# Altium integrated library FSC Logic Translator.IntLib: 55 symbols (part 2 of 2)
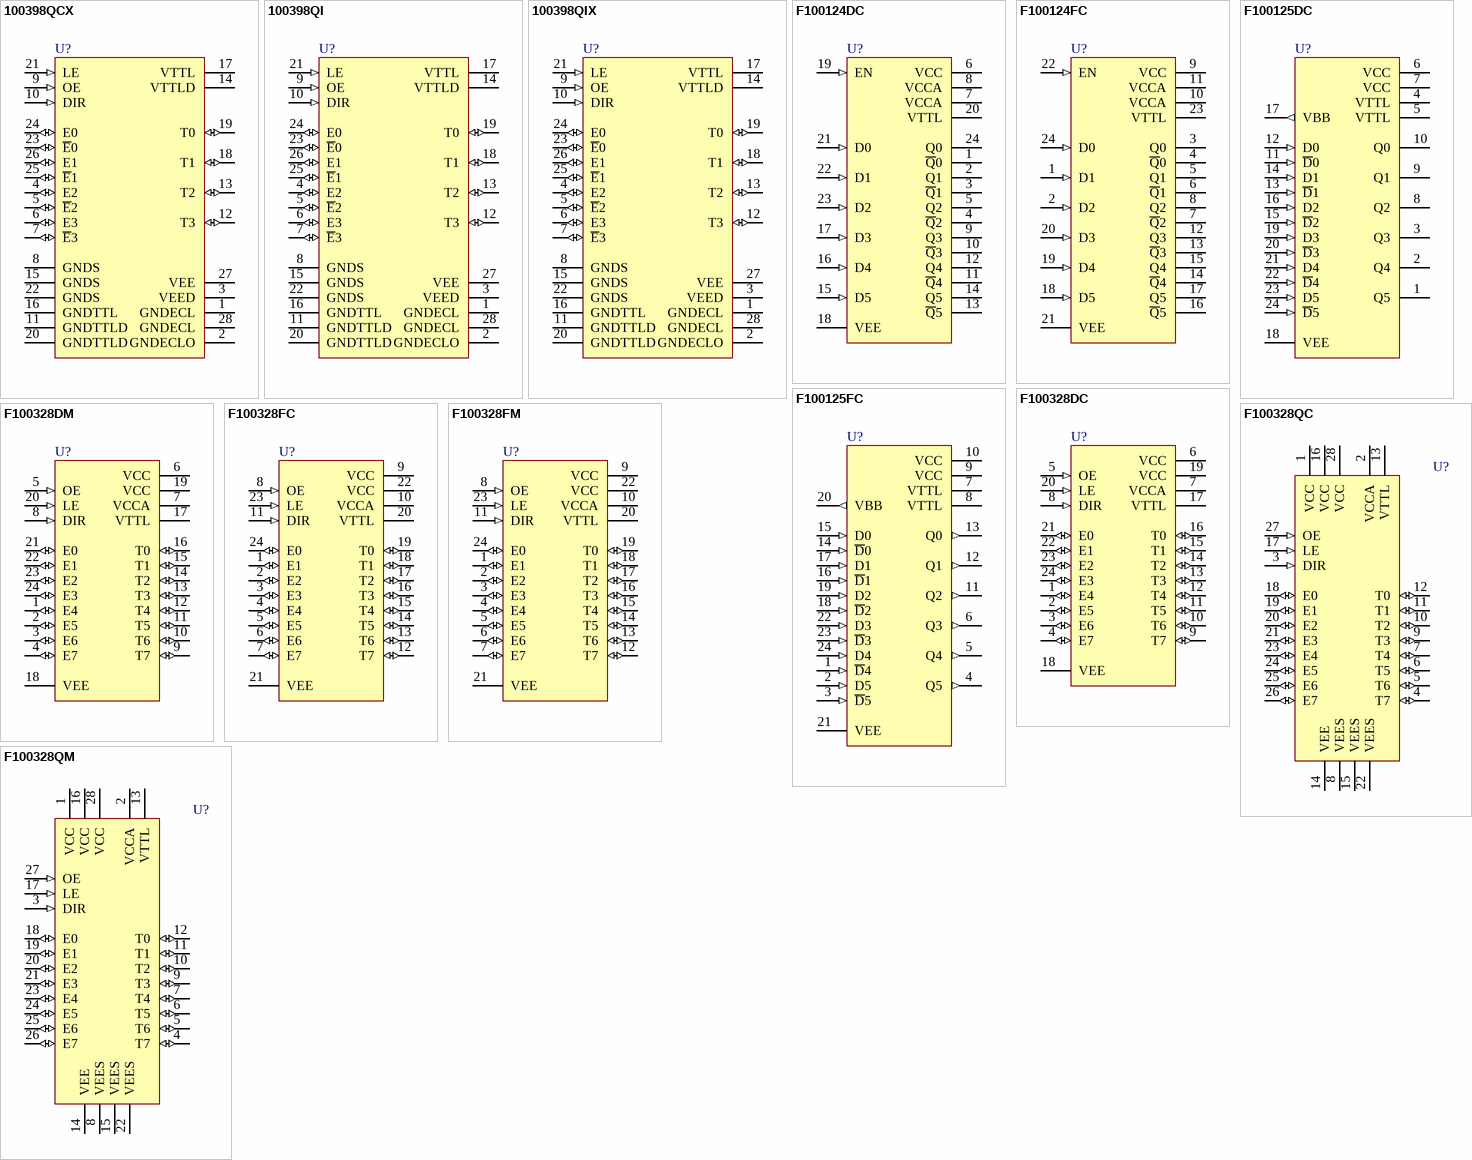
[diagram p3: symbols 100398QCX to F100328QM]

## 100398QCX
designator U?
Quad Differential ECL/TTL Translating Transceiver with Latch; Published: 17-Jul-2002; LatestRevisionDate: 13-Apr-2006; LatestRevisionNote: IPC-7351 Footprint Added.; DatasheetVersion: Nov-1999; PackageVersion: 2000; PackageReference: V28A; Publisher: Altium Limited; PackageDescription: 28-Pin Leaded Chip Carrier 1.27 mm Pitch; Code_IPC: PLCC-28; ComponentLink1Description: Manufacturer Link; ComponentLink1URL: http://www.fairchildsemi.com/
footprint V28A_N (Leaded Chip Carrier, 28-Leads, Body 11.5x11.5mm, Pitch 1.27mm, IPC Medium Density)
footprint V28A_L (Leaded Chip Carrier, 28-Leads, Body 11.5x11.5mm, Pitch 1.27mm, IPC High Density)
footprint V28A_M (Leaded Chip Carrier, 28-Leads, Body 11.5x11.5mm, Pitch 1.27mm, IPC Low Density)
3D model 100398-V28A (28-Pin Leaded Chip Carrier 1.27 mm Pitch)
pins: 1 GNDECL (power), 2 GNDECLO (power), 3 VEED (power), 4 E2 (io), 5 ~{E}2 (io), 6 E3 (io), 7 ~{E}3 (io), 8 GNDS (power), 9 OE (in), 10 DIR (in), 11 GNDTTLD (power), 12 T3 (io), 13 T2 (io), 14 VTTLD (power), 15 GNDS (power), 16 GNDTTL (power), 17 VTTL (power), 18 T1 (io), 19 T0 (io), 20 GNDTTLD (power), 21 LE (in), 22 GNDS (power), 23 ~{E}0 (io), 24 E0 (io), 25 ~{E}1 (io), 26 E1 (io), 27 VEE (power), 28 GNDECL (power)

## 100398QI
designator U?
Quad Differential ECL/TTL Translating Transceiver with Latch; Published: 17-Jul-2002; LatestRevisionDate: 13-Apr-2006; LatestRevisionNote: IPC-7351 Footprint Added.; DatasheetVersion: Nov-1999; PackageVersion: 2000; PackageReference: V28A; Publisher: Altium Limited; PackageDescription: 28-Pin Leaded Chip Carrier 1.27 mm Pitch; Code_IPC: PLCC-28; ComponentLink1Description: Manufacturer Link; ComponentLink1URL: http://www.fairchildsemi.com/
footprint V28A_N (Leaded Chip Carrier, 28-Leads, Body 11.5x11.5mm, Pitch 1.27mm, IPC Medium Density)
footprint V28A_L (Leaded Chip Carrier, 28-Leads, Body 11.5x11.5mm, Pitch 1.27mm, IPC High Density)
footprint V28A_M (Leaded Chip Carrier, 28-Leads, Body 11.5x11.5mm, Pitch 1.27mm, IPC Low Density)
3D model 100398-V28A (28-Pin Leaded Chip Carrier 1.27 mm Pitch)
pins: 1 GNDECL (power), 2 GNDECLO (power), 3 VEED (power), 4 E2 (io), 5 ~{E}2 (io), 6 E3 (io), 7 ~{E}3 (io), 8 GNDS (power), 9 OE (in), 10 DIR (in), 11 GNDTTLD (power), 12 T3 (io), 13 T2 (io), 14 VTTLD (power), 15 GNDS (power), 16 GNDTTL (power), 17 VTTL (power), 18 T1 (io), 19 T0 (io), 20 GNDTTLD (power), 21 LE (in), 22 GNDS (power), 23 ~{E}0 (io), 24 E0 (io), 25 ~{E}1 (io), 26 E1 (io), 27 VEE (power), 28 GNDECL (power)

## 100398QIX
designator U?
Quad Differential ECL/TTL Translating Transceiver with Latch; Published: 17-Jul-2002; LatestRevisionDate: 13-Apr-2006; LatestRevisionNote: IPC-7351 Footprint Added.; DatasheetVersion: Nov-1999; PackageVersion: 2000; PackageReference: V28A; Publisher: Altium Limited; PackageDescription: 28-Pin Leaded Chip Carrier 1.27 mm Pitch; Code_IPC: PLCC-28; ComponentLink1Description: Manufacturer Link; ComponentLink1URL: http://www.fairchildsemi.com/
footprint V28A_N (Leaded Chip Carrier, 28-Leads, Body 11.5x11.5mm, Pitch 1.27mm, IPC Medium Density)
footprint V28A_L (Leaded Chip Carrier, 28-Leads, Body 11.5x11.5mm, Pitch 1.27mm, IPC High Density)
footprint V28A_M (Leaded Chip Carrier, 28-Leads, Body 11.5x11.5mm, Pitch 1.27mm, IPC Low Density)
3D model 100398-V28A (28-Pin Leaded Chip Carrier 1.27 mm Pitch)
pins: 1 GNDECL (power), 2 GNDECLO (power), 3 VEED (power), 4 E2 (io), 5 ~{E}2 (io), 6 E3 (io), 7 ~{E}3 (io), 8 GNDS (power), 9 OE (in), 10 DIR (in), 11 GNDTTLD (power), 12 T3 (io), 13 T2 (io), 14 VTTLD (power), 15 GNDS (power), 16 GNDTTL (power), 17 VTTL (power), 18 T1 (io), 19 T0 (io), 20 GNDTTLD (power), 21 LE (in), 22 GNDS (power), 23 ~{E}0 (io), 24 E0 (io), 25 ~{E}1 (io), 26 E1 (io), 27 VEE (power), 28 GNDECL (power)

## F100124DC
designator U?
Hex TTL-to-ECL Translator; Note: All inputs have 50K Ohm pull-down resistors.; Published: 17-Jul-2002; LatestRevisionDate: 29-May-2009; LatestRevisionNote: Component Body Added.; DatasheetVersion: 1986; PackageVersion: 1986; PackageReference: 6Y; Publisher: Altium Limited; PackageDescription: DIP, 24-Pin, Row Spacing 10.16 mm, Pitch 2.54 mm; ComponentLink1Description: Manufacturer Link; ComponentLink1URL: http://www.fairchildsemi.com/
footprint 6Y (DIP, 24-Leads, Row Spacing 10.16mm, Pitch 2.54mm, Body 30.57x9.89mm)
3D model N24E (DIP, 24-Pin, Row Spacing 10.16 mm, Pitch 2.54 mm)
pins: 1 ~{Q}0 (oe), 2 Q1 (oe), 3 ~{Q}1 (oe), 4 ~{Q}2 (oe), 5 Q2 (oe), 6 VCC (power), 7 VCCA (power), 8 VCCA (power), 9 Q3 (oe), 10 ~{Q}3 (oe), 11 ~{Q}4 (oe), 12 Q4 (oe), 13 ~{Q}5 (oe), 14 Q5 (oe), 15 D5 (in), 16 D4 (in), 17 D3 (in), 18 VEE (power), 19 EN (in), 20 VTTL (power), 21 D0 (in), 22 D1 (in), 23 D2 (in), 24 Q0 (oe)

## F100124FC
designator U?
Hex TTL-to-ECL Translator; Note: All inputs have 50K Ohm pull-down resistors.; Published: 17-Jul-2002; LatestRevisionDate: 13-Apr-2006; LatestRevisionNote: IPC-7351 Footprint Added.; DatasheetVersion: 1986; PackageVersion: 1986; PackageReference: 4V; Publisher: Altium Limited; PackageDescription: 100-Pin Quad Cerpak 1.27 mm Pitch; ComponentLink1Description: Manufacturer Link; ComponentLink1URL: http://www.fairchildsemi.com/
footprint 4V_N (CQFP, 24-Leads, Body 10x10mm; Pitch 1.27mm, Gullwing Leadform, IPC Medium Density)
footprint 4V_L (CQFP, 24-Leads, Body 10x10mm; Pitch 1.27mm, Gullwing Leadform, IPC High Density)
footprint 4V_M (CQFP, 24-Leads, Body 10x10mm; Pitch 1.27mm, Gullwing Leadform, IPC Low Density)
3D model F100124-4V (100-Pin Quad Cerpak 1.27 mm Pitch)
pins: 1 D1 (in), 2 D2 (in), 3 Q0 (oe), 4 ~{Q}0 (oe), 5 Q1 (oe), 6 ~{Q}1 (oe), 7 ~{Q}2 (oe), 8 Q2 (oe), 9 VCC (power), 10 VCCA (power), 11 VCCA (power), 12 Q3 (oe), 13 ~{Q}3 (oe), 14 ~{Q}4 (oe), 15 Q4 (oe), 16 ~{Q}5 (oe), 17 Q5 (oe), 18 D5 (in), 19 D4 (in), 20 D3 (in), 21 VEE (power), 22 EN (in), 23 VTTL (power), 24 D0 (in)

## F100125DC
designator U?
Hex ECL-to-TTL Translator; Note: All inputs have 50K Ohm pull-down resistors.; Published: 17-Jul-2002; LatestRevisionDate: 29-May-2009; LatestRevisionNote: Component Body Added.; DatasheetVersion: 1986; PackageVersion: 1986; PackageReference: 6Y; Publisher: Altium Limited; PackageDescription: DIP, 24-Pin, Row Spacing 10.16 mm, Pitch 2.54 mm; ComponentLink1Description: Manufacturer Link; ComponentLink1URL: http://www.fairchildsemi.com/
footprint 6Y (DIP, 24-Leads, Row Spacing 10.16mm, Pitch 2.54mm, Body 30.57x9.89mm)
3D model N24E (DIP, 24-Pin, Row Spacing 10.16 mm, Pitch 2.54 mm)
pins: 1 Q5 (oe), 2 Q4 (oe), 3 Q3 (oe), 4 VTTL (power), 5 VTTL (power), 6 VCC (power), 7 VCC (power), 8 Q2 (oe), 9 Q1 (oe), 10 Q0 (oe), 11 ~{D}0 (in), 12 D0 (in), 13 ~{D}1 (in), 14 D1 (in), 15 ~{D}2 (in), 16 D2 (in), 17 VBB (out), 18 VEE (power), 19 D3 (in), 20 ~{D}3 (in), 21 D4 (in), 22 ~{D}4 (in), 23 D5 (in), 24 ~{D}5 (in)

## F100125FC
designator U?
Hex ECL-to-TTL Translator; Note: All inputs have 50K Ohm pull-down resistors.; Published: 17-Jul-2002; LatestRevisionDate: 13-Apr-2006; LatestRevisionNote: IPC-7351 Footprint Added.; DatasheetVersion: 1986; PackageVersion: 1986; PackageReference: 4V; Publisher: Altium Limited; PackageDescription: 100-Pin Quad Cerpak 1.27 mm Pitch; ComponentLink1Description: Manufacturer Link; ComponentLink1URL: http://www.fairchildsemi.com/
footprint 4V_N (CQFP, 24-Leads, Body 10x10mm; Pitch 1.27mm, Gullwing Leadform, IPC Medium Density)
footprint 4V_L (CQFP, 24-Leads, Body 10x10mm; Pitch 1.27mm, Gullwing Leadform, IPC High Density)
footprint 4V_M (CQFP, 24-Leads, Body 10x10mm; Pitch 1.27mm, Gullwing Leadform, IPC Low Density)
3D model F100125-4V (100-Pin Quad Cerpak 1.27 mm Pitch)
pins: 1 ~{D}4 (in), 2 D5 (in), 3 ~{D}5 (in), 4 Q5 (out), 5 Q4 (out), 6 Q3 (out), 7 VTTL (power), 8 VTTL (power), 9 VCC (power), 10 VCC (power), 11 Q2 (out), 12 Q1 (out), 13 Q0 (out), 14 ~{D}0 (in), 15 D0 (in), 16 ~{D}1 (in), 17 D1 (in), 18 ~{D}2 (in), 19 D2 (in), 20 VBB (out), 21 VEE (power), 22 D3 (in), 23 ~{D}3 (in), 24 D4 (in)

## F100328DC
designator U?
Low Power Octal ECL/TTL Bi-Directional Translator with Latch; Note: VCC = VCCA = GND.; Published: 17-Jul-2002; LatestRevisionDate: 29-May-2009; LatestRevisionNote: Component Body Added.; DatasheetVersion: Aug-1990; PackageVersion: Mar-1998; PackageReference: J24E; Publisher: Altium Limited; PackageDescription: DIP, 24-Pin, Row Spacing 10.16 mm, Pitch 2.54 mm; ComponentLink1Description: Manufacturer Link; ComponentLink1URL: http://www.fairchildsemi.com/
footprint J24E (DIP, 24-Leads, Row Spacing 10.16mm, Pitch 2.54mm, Body 30.48x9.14mm)
3D model N24E (DIP, 24-Pin, Row Spacing 10.16 mm, Pitch 2.54 mm)
pins: 1 E4 (io), 2 E5 (io), 3 E6 (io), 4 E7 (io), 5 OE (in), 6 VCC (power), 7 VCCA (power), 8 DIR (in), 9 T7 (io), 10 T6 (io), 11 T5 (io), 12 T4 (io), 13 T3 (io), 14 T2 (io), 15 T1 (io), 16 T0 (io), 17 VTTL (power), 18 VEE (power), 19 VCC (power), 20 LE (in), 21 E0 (io), 22 E1 (io), 23 E2 (io), 24 E3 (io)

## F100328DM
designator U?
Low Power Octal ECL/TTL Bi-Directional Translator with Latch; Note: VCC = VCCA = GND.; Published: 17-Jul-2002; LatestRevisionDate: 29-May-2009; LatestRevisionNote: Component Body Added.; DatasheetVersion: Aug-1990; PackageVersion: Mar-1998; PackageReference: J24E; Publisher: Altium Limited; PackageDescription: DIP, 24-Pin, Row Spacing 10.16 mm, Pitch 2.54 mm; ComponentLink1Description: Manufacturer Link; ComponentLink1URL: http://www.fairchildsemi.com/
footprint J24E (DIP, 24-Leads, Row Spacing 10.16mm, Pitch 2.54mm, Body 30.48x9.14mm)
3D model N24E (DIP, 24-Pin, Row Spacing 10.16 mm, Pitch 2.54 mm)
pins: 1 E4 (io), 2 E5 (io), 3 E6 (io), 4 E7 (io), 5 OE (in), 6 VCC (power), 7 VCCA (power), 8 DIR (in), 9 T7 (io), 10 T6 (io), 11 T5 (io), 12 T4 (io), 13 T3 (io), 14 T2 (io), 15 T1 (io), 16 T0 (io), 17 VTTL (power), 18 VEE (power), 19 VCC (power), 20 LE (in), 21 E0 (io), 22 E1 (io), 23 E2 (io), 24 E3 (io)

## F100328FC
designator U?
Low Power Octal ECL/TTL Bi-Directional Translator with Latch; Note: VCC = VCCA = GND.; Published: 17-Jul-2002; LatestRevisionDate: 13-Apr-2006; LatestRevisionNote: IPC-7351 Footprint Added.; DatasheetVersion: Aug-1990; PackageVersion: Aug-1990; PackageReference: W24B; Publisher: Altium Limited; PackageDescription: 100-Pin Ceramic Quad Flat Pack 1.27 mm Pitch; ComponentLink1Description: Manufacturer Link; ComponentLink1URL: http://www.fairchildsemi.com/
footprint W24B_N (CQFP, 24-Leads, Body 10x10mm; Pitch 1.27mm, Gullwing Leadform, IPC Medium Density)
footprint W24B_L (CQFP, 24-Leads, Body 10x10mm; Pitch 1.27mm, Gullwing Leadform, IPC High Density)
footprint W24B_M (CQFP, 24-Leads, Body 10x10mm; Pitch 1.27mm, Gullwing Leadform, IPC Low Density)
3D model F100328-W24B (100-Pin Ceramic Quad Flat Pack 1.27 mm Pitch)
pins: 1 E1 (io), 2 E2 (io), 3 E3 (io), 4 E4 (io), 5 E5 (io), 6 E6 (io), 7 E7 (io), 8 OE (in), 9 VCC (power), 10 VCCA (power), 11 DIR (in), 12 T7 (io), 13 T6 (io), 14 T5 (io), 15 T4 (io), 16 T3 (io), 17 T2 (io), 18 T1 (io), 19 T0 (io), 20 VTTL (power), 21 VEE (power), 22 VCC (power), 23 LE (in), 24 E0 (io)

## F100328FM
designator U?
Low Power Octal ECL/TTL Bi-Directional Translator with Latch; Note: VCC = VCCA = GND.; Published: 17-Jul-2002; LatestRevisionDate: 13-Apr-2006; LatestRevisionNote: IPC-7351 Footprint Added.; DatasheetVersion: Aug-1990; PackageVersion: Aug-1990; PackageReference: W24B; Publisher: Altium Limited; PackageDescription: 100-Pin Ceramic Quad Flat Pack 1.27 mm Pitch; ComponentLink1Description: Manufacturer Link; ComponentLink1URL: http://www.fairchildsemi.com/
footprint W24B_N (CQFP, 24-Leads, Body 10x10mm; Pitch 1.27mm, Gullwing Leadform, IPC Medium Density)
footprint W24B_L (CQFP, 24-Leads, Body 10x10mm; Pitch 1.27mm, Gullwing Leadform, IPC High Density)
footprint W24B_M (CQFP, 24-Leads, Body 10x10mm; Pitch 1.27mm, Gullwing Leadform, IPC Low Density)
3D model F100328-W24B (100-Pin Ceramic Quad Flat Pack 1.27 mm Pitch)
pins: 1 E1 (io), 2 E2 (io), 3 E3 (io), 4 E4 (io), 5 E5 (io), 6 E6 (io), 7 E7 (io), 8 OE (in), 9 VCC (power), 10 VCCA (power), 11 DIR (in), 12 T7 (io), 13 T6 (io), 14 T5 (io), 15 T4 (io), 16 T3 (io), 17 T2 (io), 18 T1 (io), 19 T0 (io), 20 VTTL (power), 21 VEE (power), 22 VCC (power), 23 LE (in), 24 E0 (io)

## F100328QC
designator U?
Low Power Octal ECL/TTL Bi-Directional Translator with Latch; Note: VCC = VCCA = GND.; Published: 17-Jul-2002; LatestRevisionDate: 13-Apr-2006; LatestRevisionNote: IPC-7351 Footprint Added.; DatasheetVersion: Aug-1990; PackageVersion: 2000; PackageReference: V28A; Publisher: Altium Limited; PackageDescription: 28-Pin Leaded Chip Carrier 1.27 mm Pitch; Code_IPC: PLCC-28; ComponentLink1Description: Manufacturer Link; ComponentLink1URL: http://www.fairchildsemi.com/
footprint V28A_N (Leaded Chip Carrier, 28-Leads, Body 11.5x11.5mm, Pitch 1.27mm, IPC Medium Density)
footprint V28A_L (Leaded Chip Carrier, 28-Leads, Body 11.5x11.5mm, Pitch 1.27mm, IPC High Density)
footprint V28A_M (Leaded Chip Carrier, 28-Leads, Body 11.5x11.5mm, Pitch 1.27mm, IPC Low Density)
3D model F100328-V28A (28-Pin Leaded Chip Carrier 1.27 mm Pitch)
pins: 1 VCC (power), 2 VCCA (power), 3 DIR (in), 4 T7 (io), 5 T6 (io), 6 T5 (io), 7 T4 (io), 8 VEES (power), 9 T3 (io), 10 T2 (io), 11 T1 (io), 12 T0 (io), 13 VTTL (power), 14 VEE (power), 15 VEES (power), 16 VCC (power), 17 LE (in), 18 E0 (io), 19 E1 (io), 20 E2 (io), 21 E3 (io), 22 VEES (power), 23 E4 (io), 24 E5 (io), 25 E6 (io), 26 E7 (io), 27 OE (in), 28 VCC (power)

## F100328QM
designator U?
Low Power Octal ECL/TTL Bi-Directional Translator with Latch; Note: VCC = VCCA = GND.; Published: 17-Jul-2002; LatestRevisionDate: 13-Apr-2006; LatestRevisionNote: IPC-7351 Footprint Added.; DatasheetVersion: Aug-1990; PackageVersion: 2000; PackageReference: V28A; Publisher: Altium Limited; PackageDescription: 28-Pin Leaded Chip Carrier 1.27 mm Pitch; Code_IPC: PLCC-28; ComponentLink1Description: Manufacturer Link; ComponentLink1URL: http://www.fairchildsemi.com/
footprint V28A_N (Leaded Chip Carrier, 28-Leads, Body 11.5x11.5mm, Pitch 1.27mm, IPC Medium Density)
footprint V28A_L (Leaded Chip Carrier, 28-Leads, Body 11.5x11.5mm, Pitch 1.27mm, IPC High Density)
footprint V28A_M (Leaded Chip Carrier, 28-Leads, Body 11.5x11.5mm, Pitch 1.27mm, IPC Low Density)
3D model F100328-V28A (28-Pin Leaded Chip Carrier 1.27 mm Pitch)
pins: 1 VCC (power), 2 VCCA (power), 3 DIR (in), 4 T7 (io), 5 T6 (io), 6 T5 (io), 7 T4 (io), 8 VEES (power), 9 T3 (io), 10 T2 (io), 11 T1 (io), 12 T0 (io), 13 VTTL (power), 14 VEE (power), 15 VEES (power), 16 VCC (power), 17 LE (in), 18 E0 (io), 19 E1 (io), 20 E2 (io), 21 E3 (io), 22 VEES (power), 23 E4 (io), 24 E5 (io), 25 E6 (io), 26 E7 (io), 27 OE (in), 28 VCC (power)